# EAGLE library part SIM (library Simplex-Connectors)
SIM card holders without lock detection
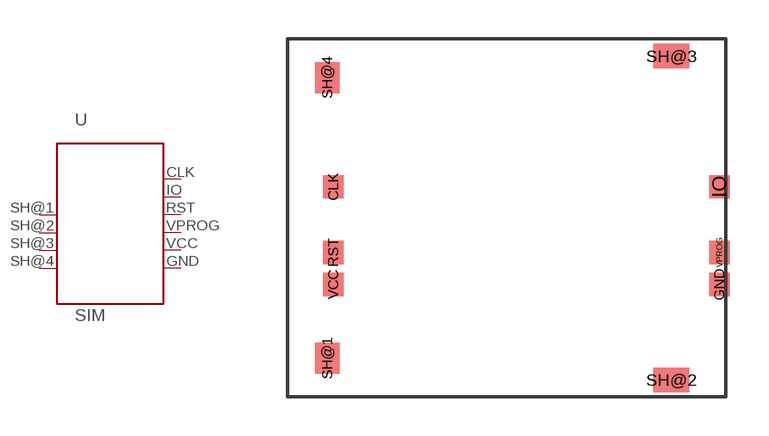
[diagram p5: symbol with the pads of MOLEX_7880-0001; footprint MOLEX_7880-0001]

Designator prefix -

## SIM_MOLEX_7880-0001  [MOLEX_7880-0001]
CLK  CLK
GND  GND
IO  IO
RST  RST
SH@1  SH
SH@2  SH
SH@3  SH
SH@4  SH
VCC  VCC
VPROG  VPROG

## Footprint MOLEX_7880-0001 (pad centres in mm)
MOLEX 7880-0001 mini SIM card holder
smd 0.8 x 0.9: CLK 1.77,8.13; GND 16.71,4.35; IO 16.71,8.13; RST 1.77,5.59; VCC 1.77,4.35; VPROG 16.71,5.59
smd 0.95 x 1.2: SH@1 1.54,1.5; SH@4 1.54,12.35
smd 1.4 x 0.95: SH@2 14.85,0.66; SH@3 14.85,13.18